# Altium schematic symbol library pyboard.SCHLIB: 10 symbols
Pins are listed as number, name and electrical type; pins without a type are passive.

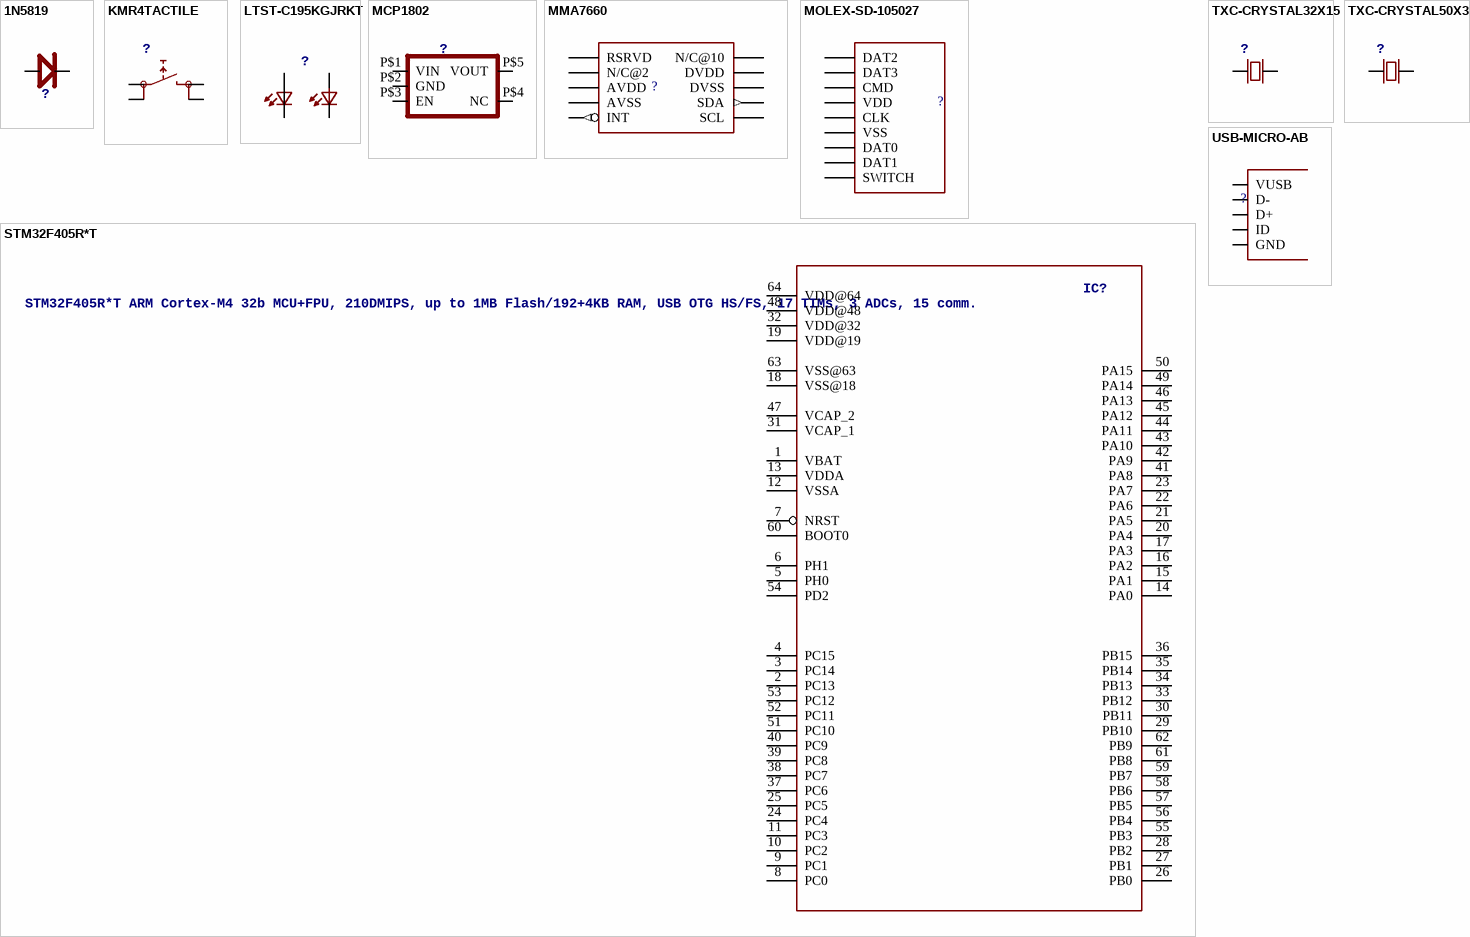
[diagram p0: symbols 1N5819 to USB-MICRO-AB]

## 1N5819
designator ?
footprint SOD-123
pins: A, K

## KMR4TACTILE
designator ?
footprint KMR4SWITCH
pins: P$1 0@A, P$2 0@B, P$3 1@B, P$4 1@A

## LTST-C195KGJRKT
designator ?
footprint LTST-BILED-15X16
pins: P$1 A1, P$2 A2, P$3 K1, P$4 K2

## MCP1802
designator ?
footprint SOT-23-5
pins: P$1 VIN (power), P$2 GND (power), P$3 EN, P$4 NC, P$5 VOUT (power)

## MMA7660
designator ?
footprint DFN10
pins: P$1 RSRVD, P$2 N/C@2, P$3 AVDD (power), P$4 AVSS (power), P$5 INT (out), P$6 SCL, P$7 SDA (out), P$8 DVSS (power), P$9 DVDD (power), P$10 N/C@10

## MOLEX-SD-105027
designator ?
footprint MOLEX-SD-105027-PKG
pins: G$1 SWITCH, P$1 DAT2, P$2 DAT3, P$3 CMD, P$4 VDD, P$5 CLK, P$6 VSS, P$7 DAT0, P$8 DAT1

## STM32F405R*T
designator IC?, comment STM32F405R*T ARM Cortex-M4 32b MCU+FPU, 210DMIPS, up to 1MB Flash/192+4KB RAM, USB OTG HS/FS, 17 TIMs, 3 ADCs, 15 comm.
footprint LQFP64
pins: 1 VBAT (power), 2 PC13, 3 PC14, 4 PC15, 5 PH0, 6 PH1, 7 NRST, 8 PC0, 9 PC1, 10 PC2, 11 PC3, 12 VSSA (power), 13 VDDA (power), 14 PA0, 15 PA1, 16 PA2, 17 PA3, 18 VSS@18 (power), 19 VDD@19 (power), 20 PA4, 21 PA5, 22 PA6, 23 PA7, 24 PC4, 25 PC5, 26 PB0, 27 PB1, 28 PB2, 29 PB10, 30 PB11, 31 VCAP_1, 32 VDD@32 (power), 33 PB12, 34 PB13, 35 PB14, 36 PB15, 37 PC6, 38 PC7, 39 PC8, 40 PC9, 41 PA8, 42 PA9, 43 PA10, 44 PA11, 45 PA12, 46 PA13, 47 VCAP_2, 48 VDD@48 (power), 49 PA14, 50 PA15, 51 PC10, 52 PC11, 53 PC12, 54 PD2, 55 PB3, 56 PB4, 57 PB5, 58 PB6, 59 PB7, 60 BOOT0, 61 PB8, 62 PB9, 63 VSS@63 (power), 64 VDD@64 (power)

## TXC-CRYSTAL32X15
designator ?
footprint TXC-SMD-32X15
pins: P$1, P$2

## TXC-CRYSTAL50X32
designator ?
footprint TXC-SMD-50X32
pins: P$1, P$2

## USB-MICRO-AB
designator ?
footprint HRS-USB-ZX62D-AB-5P8-PKG
pins: P$1 VUSB (power), P$2 D-, P$3 D+, P$4 ID, P$5 GND (power)